# Altium schematic symbol library M24C02-WMN6TP.Schlib: 1 symbol
Pins are listed as number, name and electrical type; pins without a type are passive.

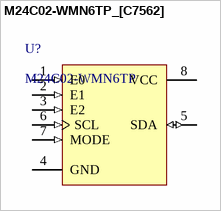
[diagram p0: symbol M24C02-WMN6TP_[C7562]]

## M24C02-WMN6TP_[C7562]
designator U?, comment M24C02-WMN6TP
EEPROM
footprint SOIC-8_150mil
pins: 1 E0 (in), 2 E1 (in), 3 E2 (in), 4 GND (power), 5 SDA (io), 6 SCL (in), 7 MODE (in), 8 VCC (power)